# EAGLE library part 66226-006LF (library FCI-tkr)
FFC/FPC CONNECTOR, PLUG, 6POS, 1ROW
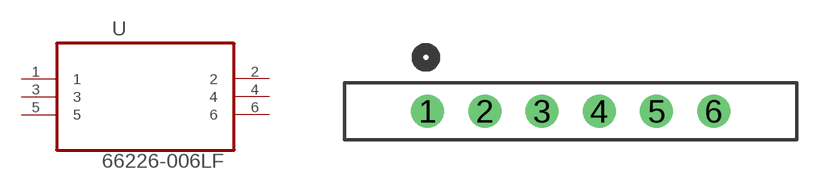
[diagram p13: symbol with the pads of FCI_66226-006LF; footprint FCI_66226-006LF]

Designator prefix U

## 66226-006LF (MPN: 66226-006LF; OC_FARNELL: 1315859; OC_NEWARK: 65K9470; PACKAGE: CONNECTOR-6POS; SUPPLIER: FCI)  [FCI_66226-006LF]
1  1  pas
2  2  pas
3  3  pas
4  4  pas
5  5  pas
6  6  pas

## Footprint FCI_66226-006LF (pad centres in mm)
drill 0.965: 1 0,0; 2 2.54,0; 3 5.08,0; 4 7.62,0; 5 10.16,0; 6 12.7,0